# Altium schematic symbol library SCH - ADC - AD AD9637.SchLib: 1 symbol
Pins are listed as number, name and electrical type; pins without a type are passive.

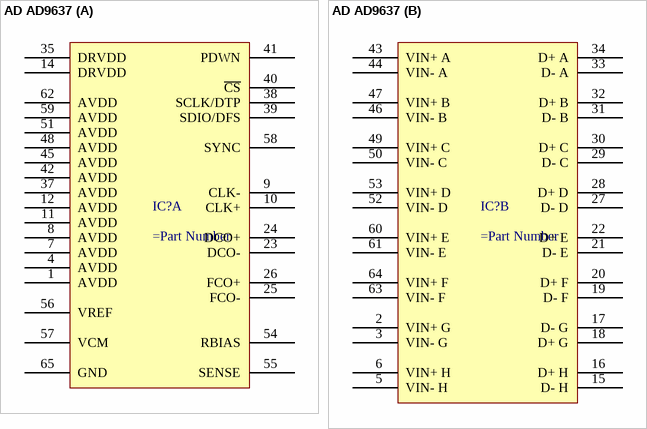
[diagram p0: symbol AD AD9637]

## AD AD9637
designator IC?
part A pins: 1 AVDD, 4 AVDD, 7 AVDD, 8 AVDD, 9 CLK-, 10 CLK+, 11 AVDD, 12 AVDD, 14 DRVDD, 23 DCO-, 24 DCO+, 25 FCO-, 26 FCO+, 35 DRVDD, 37 AVDD, 38 SCLK/DTP, 39 SDIO/DFS, 40 ~{CS}, 41 PDWN, 42 AVDD, 45 AVDD, 48 AVDD, 51 AVDD, 54 RBIAS, 55 SENSE, 56 VREF, 57 VCM, 58 SYNC, 59 AVDD, 62 AVDD, 65 GND
part B pins: 2 VIN+ G, 3 VIN- G, 5 VIN- H, 6 VIN+ H, 15 D- H, 16 D+ H, 17 D- G, 18 D+ G, 19 D- F, 20 D+ F, 21 D- E, 22 D+ E, 27 D- D, 28 D+ D, 29 D- C, 30 D+ C, 31 D- B, 32 D+ B, 33 D- A, 34 D+ A, 43 VIN+ A, 44 VIN- A, 46 VIN- B, 47 VIN+ B, 49 VIN+ C, 50 VIN- C, 52 VIN- D, 53 VIN+ D, 60 VIN+ E, 61 VIN- E, 63 VIN- F, 64 VIN+ F